# Altium integrated library Diodes$.IntLib: 57 symbols
Pins are listed as number, name and electrical type; pins without a type are passive.

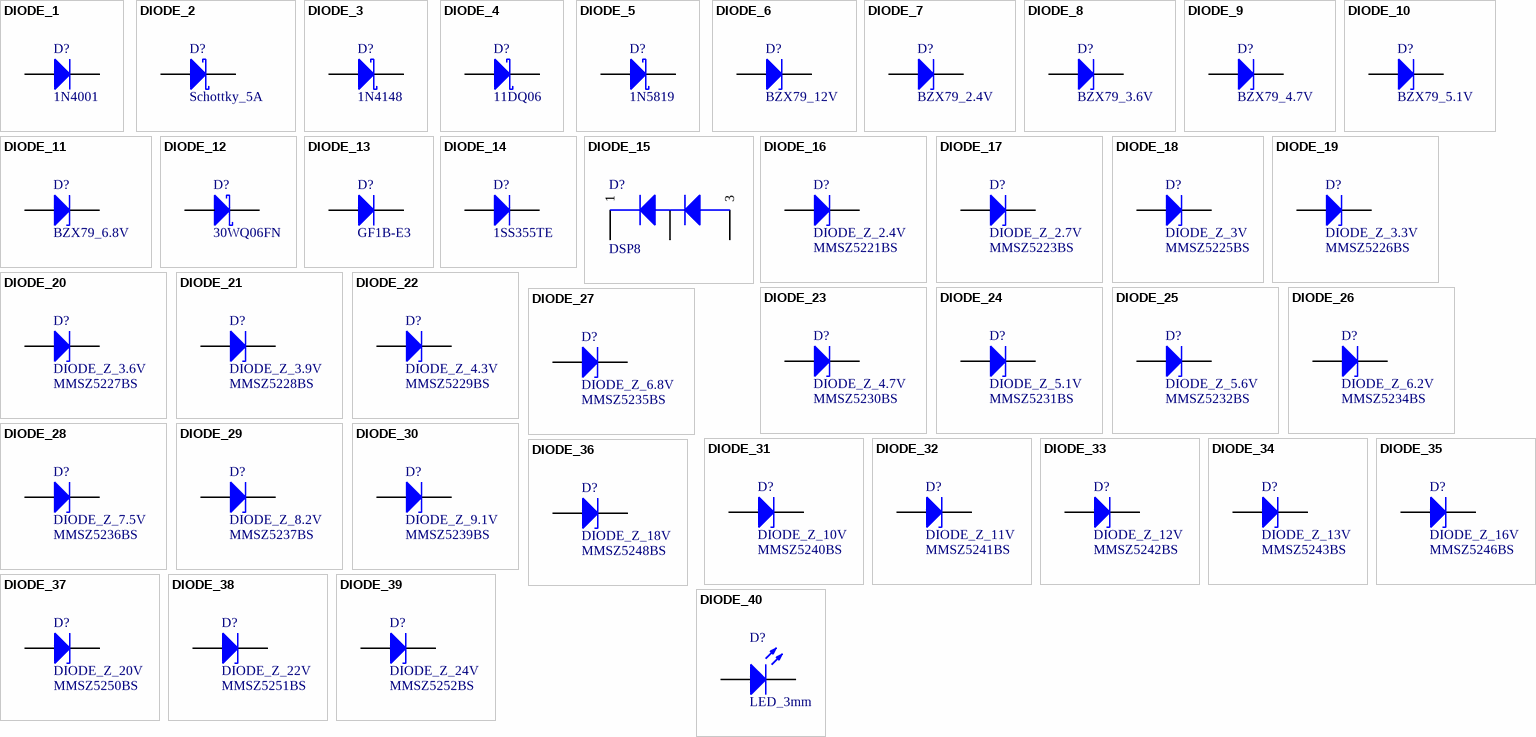
[diagram p0: symbols DIODE_1 to DIODE_40]

## DIODE_1
designator D?, comment 1N4001
Type: Diode; Current / Power: 1 A; RS_number: 628-8931; QR: 1; UID: DIODE_1; Name: 1N4001; Name_Hyperlink: Diode 1N4001-E3; ComponentLink1URL: #NAME?; mounting: THT
footprint DO_41
pins: 1, 2

## DIODE_2
designator D?, comment Schottky_5A
Current / Power: 5 A; RS_number: 700-0928; QR: 1; UID: DIODE_2; Name: Schottky_5A; Type: Schottky; Name_Hyperlink: Diode Schottky Rectifier 5A 60V DO-204AL; ComponentLink1URL: #NAME?; mounting: THT
footprint DO_201
pins: 1 A, 2 K

## DIODE_3
designator D?, comment 1N4148
Type: Schottky; Current / Power: 0.2 A; RS_number: 670-8858; QR: 1; UID: DIODE_3; Name: 1N4148; Name_Hyperlink: Diode Ultra Fast 100V 0.2A 2-Pin DO-35; ComponentLink1URL: #NAME?; mounting: THT
footprint DO_35
pins: 1 A, 2 K

## DIODE_4
designator D?, comment 11DQ06
Type: Schottky; Current / Power: 1.1 A; RS_number: 254-0702; QR: 1; UID: DIODE_4; Name: 11DQ06; Name_Hyperlink: Schottky-Diode 11DQ06; ComponentLink1URL: #NAME?; mounting: THT
footprint DO_41
pins: 1 A, 2 K

## DIODE_5
designator D?, comment 1N5819
Type: Schottky; Current / Power: 1 A; RS_number: 486-4460; QR: 1; UID: DIODE_5; Name: 1N5819; Name_Hyperlink: Schottky-Diode 1N5819; ComponentLink1URL: #NAME?; mounting: THT
footprint DO_41
pins: 1 A, 2 K

## DIODE_6
designator D?, comment BZX79_12V
Type: Zener; Z_Voltage: 12 V; Current / Power: 0.5 W; RS_number: 544-4477; QR: 1; UID: DIODE_6; Name: BZX79_12V; Name_Hyperlink: Zener-Diode BZX79 12 V; ComponentLink1URL: #NAME?; mounting: THT
footprint DO_35
pins: 1, 2

## DIODE_7
designator D?, comment BZX79_2.4V
Type: Zener; Z_Voltage: 2.4 V; Current / Power: 0.5 W; RS_number: 544-3503; QR: 1; UID: DIODE_7; Name: BZX79_2.4V; Name_Hyperlink: Zener-Diode BZX79 2,4 V; ComponentLink1URL: #NAME?; mounting: THT
footprint DO_35
pins: 1, 2

## DIODE_8
designator D?, comment BZX79_3.6V
Type: Zener; Z_Voltage: 3,6 V; Current / Power: 0.5 W; RS_number: 446-8624; QR: 1; UID: DIODE_8; Name: BZX79_3.6V; Name_Hyperlink: Zener-Diode BZX79 3,6 V; ComponentLink1URL: #NAME?; mounting: THT
footprint DO_35
pins: 1, 2

## DIODE_9
designator D?, comment BZX79_4.7V
Type: Zener; Z_Voltage: 4.7 V; Current / Power: 0.5 W; RS_number: 544-3575; QR: 1; UID: DIODE_9; Name: BZX79_4.7V; Name_Hyperlink: Zener-Diode BZX79 4,7 V; ComponentLink1URL: #NAME?; mounting: THT
footprint DO_35
pins: 1, 2

## DIODE_10
designator D?, comment BZX79_5.1V
Type: Zener; Z_Voltage: 5.1 V; Current / Power: 0.5 W; RS_number: 544-3597; QR: 1; UID: DIODE_10; Name: BZX79_5.1V; Name_Hyperlink: Zener-Diode BZX79 5,1 V; ComponentLink1URL: #NAME?; mounting: THT
footprint DO_35
pins: 1, 2

## DIODE_11
designator D?, comment BZX79_6.8V
Type: Zener; Z_Voltage: 6.8 V; Current / Power: 0.5 W; RS_number: 544-3626; QR: 1; UID: DIODE_11; Name: BZX79_6.8V; Name_Hyperlink: Zener-Diode BZX79 6,8 V; ComponentLink1URL: #NAME?; mounting: THT
footprint DO_35
pins: 1, 2

## DIODE_12
designator D?, comment 30WQ06FN
Type: Schottky; Current / Power: 3.5 A; RS_number: 300-357P; QR: 0; UID: DIODE_12; Name: 30WQ06FN; Name_Hyperlink: Diode 30WQ06FN; ComponentLink1URL: #NAME?; mounting: SMD
footprint TO_252
pins: 1, 2, 3

## DIODE_13
designator D?, comment GF1B-E3
Type: Diode; Current / Power: 1 A; RS_number: 629-0423; QR: 0; UID: DIODE_13; Name: GF1B-E3; Name_Hyperlink: GF1B-E3; ComponentLink1URL: #NAME?; mounting: SMD
footprint DO_214
pins: 1, 2

## DIODE_14
designator D?, comment 1SS355TE
Type: Diode; Current / Power: 0.225 A; RS_number: 700-2766; QR: 0; UID: DIODE_14; Name: 1SS355TE; Name_Hyperlink: Gleichrichterdiode 90V 225mA SOD-323; ComponentLink1URL: #NAME?; mounting: SMD
footprint SOD_323
pins: 1, 2

## DIODE_15
designator D?, comment DSP8
Type: Diode; Current / Power: 8 A; RS_number: 761-4044; QR: 0; UID: DIODE_15; Name: DSP8; spice_ref: 0; Name_Hyperlink: Standarddiode 800 V 11 A TO220AB; ComponentLink1URL: #NAME?; mounting: THT
footprint TO_220
pins: 1, 2, 3

## DIODE_16
designator D?, comment DIODE_Z_2.4V
Component_number: MMSZ5221BS; Component_code: Z0; Type: Zener; Z_Voltage: 2.4 V; Current / Power: 0.2 W; QR: 0; UID: DIODE_16; Name: DIODE_Z_2.4V; ComponentLink1URL: #NAME?; mounting: SMD
footprint SOD_323
pins: 1, 2

## DIODE_17
designator D?, comment DIODE_Z_2.7V
Component_number: MMSZ5223BS; Component_code: Z1; Type: Zener; Z_Voltage: 2.7 V; Current / Power: 0.2 W; QR: 0; UID: DIODE_17; Name: DIODE_Z_2.7V; ComponentLink1URL: #NAME?; mounting: SMD
footprint SOD_323
pins: 1, 2

## DIODE_18
designator D?, comment DIODE_Z_3V
Component_number: MMSZ5225BS; Component_code: Z2; Type: Zener; Z_Voltage: 3 V; Current / Power: 0.2 W; QR: 0; UID: DIODE_18; Name: DIODE_Z_3V; ComponentLink1URL: #NAME?; mounting: SMD
footprint SOD_323
pins: 1, 2

## DIODE_19
designator D?, comment DIODE_Z_3.3V
Component_number: MMSZ5226BS; Component_code: Z3; Type: Zener; Z_Voltage: 3.3 V; Current / Power: 0.2 W; QR: 0; UID: DIODE_19; Name: DIODE_Z_3.3V; ComponentLink1URL: #NAME?; mounting: SMD
footprint SOD_323
pins: 1, 2

## DIODE_20
designator D?, comment DIODE_Z_3.6V
Component_number: MMSZ5227BS; Component_code: Z4; Type: Zener; Z_Voltage: 3.6 V; Current / Power: 0.2 W; QR: 0; UID: DIODE_20; Name: DIODE_Z_3.6V; ComponentLink1URL: #NAME?; mounting: SMD
footprint SOD_323
pins: 1, 2

## DIODE_21
designator D?, comment DIODE_Z_3.9V
Component_number: MMSZ5228BS; Component_code: Z5; Type: Zener; Z_Voltage: 3.9 V; Current / Power: 0.2 W; QR: 0; UID: DIODE_21; Name: DIODE_Z_3.9V; ComponentLink1URL: #NAME?; mounting: SMD
footprint SOD_323
pins: 1, 2

## DIODE_22
designator D?, comment DIODE_Z_4.3V
Component_number: MMSZ5229BS; Component_code: Z6; Type: Zener; Z_Voltage: 4.3 V; Current / Power: 0.2 W; QR: 0; UID: DIODE_22; Name: DIODE_Z_4.3V; ComponentLink1URL: #NAME?; mounting: SMD
footprint SOD_323
pins: 1, 2

## DIODE_23
designator D?, comment DIODE_Z_4.7V
Component_number: MMSZ5230BS; Component_code: Z7; Type: Zener; Z_Voltage: 4.7 V; Current / Power: 0.2 W; QR: 0; UID: DIODE_23; Name: DIODE_Z_4.7V; ComponentLink1URL: #NAME?; mounting: SMD
footprint SOD_323
pins: 1, 2

## DIODE_24
designator D?, comment DIODE_Z_5.1V
Component_number: MMSZ5231BS; Component_code: E1; Type: Zener; Z_Voltage: 5.1 V; Current / Power: 0.2 W; QR: 0; UID: DIODE_24; Name: DIODE_Z_5.1V; ComponentLink1URL: #NAME?; mounting: SMD
footprint SOD_323
pins: 1, 2

## DIODE_25
designator D?, comment DIODE_Z_5.6V
Component_number: MMSZ5232BS; Component_code: E2; Type: Zener; Z_Voltage: 5.6 V; Current / Power: 0.2 W; QR: 0; UID: DIODE_25; Name: DIODE_Z_5.6V; ComponentLink1URL: #NAME?; mounting: SMD
footprint SOD_323
pins: 1, 2

## DIODE_26
designator D?, comment DIODE_Z_6.2V
Component_number: MMSZ5234BS; Component_code: E4; Type: Zener; Z_Voltage: 6.2 V; Current / Power: 0.2 W; QR: 0; UID: DIODE_26; Name: DIODE_Z_6.2V; ComponentLink1URL: #NAME?; mounting: SMD
footprint SOD_323
pins: 1, 2

## DIODE_27
designator D?, comment DIODE_Z_6.8V
Component_number: MMSZ5235BS; Component_code: ZB; Type: Zener; Z_Voltage: 6.8 V; Current / Power: 0.2 W; QR: 0; UID: DIODE_27; Name: DIODE_Z_6.8V; ComponentLink1URL: #NAME?; mounting: SMD
footprint SOD_323
pins: 1, 2

## DIODE_28
designator D?, comment DIODE_Z_7.5V
Component_number: MMSZ5236BS; Component_code: F1; Type: Zener; Z_Voltage: 7.5 V; Current / Power: 0.2 W; QR: 0; UID: DIODE_28; Name: DIODE_Z_7.5V; ComponentLink1URL: #NAME?; mounting: SMD
footprint SOD_323
pins: 1, 2

## DIODE_29
designator D?, comment DIODE_Z_8.2V
Component_number: MMSZ5237BS; Component_code: F2; Type: Zener; Z_Voltage: 8.2 V; Current / Power: 0.2 W; QR: 0; UID: DIODE_29; Name: DIODE_Z_8.2V; ComponentLink1URL: #NAME?; mounting: SMD
footprint SOD_323
pins: 1, 2

## DIODE_30
designator D?, comment DIODE_Z_9.1V
Component_number: MMSZ5239BS; Component_code: ZE; Type: Zener; Z_Voltage: 9.1 V; Current / Power: 0.2 W; QR: 0; UID: DIODE_30; Name: DIODE_Z_9.1V; ComponentLink1URL: #NAME?; mounting: SMD
footprint SOD_323
pins: 1, 2

## DIODE_31
designator D?, comment DIODE_Z_10V
Component_number: MMSZ5240BS; Component_code: F5; Type: Zener; Z_Voltage: 10 V; Current / Power: 0.2 W; QR: 0; UID: DIODE_31; Name: DIODE_Z_10V; ComponentLink1URL: #NAME?; mounting: SMD
footprint SOD_323
pins: 1, 2

## DIODE_32
designator D?, comment DIODE_Z_11V
Component_number: MMSZ5241BS; Component_code: H1; Type: Zener; Z_Voltage: 11 V; Current / Power: 0.2 W; QR: 0; UID: DIODE_32; Name: DIODE_Z_11V; ComponentLink1URL: #NAME?; mounting: SMD
footprint SOD_323
pins: 1, 2

## DIODE_33
designator D?, comment DIODE_Z_12V
Component_number: MMSZ5242BS; Component_code: H2; Type: Zener; Z_Voltage: 12 V; Current / Power: 0.2 W; QR: 0; UID: DIODE_33; Name: DIODE_Z_12V; ComponentLink1URL: #NAME?; mounting: SMD
footprint SOD_323
pins: 1, 2

## DIODE_34
designator D?, comment DIODE_Z_13V
Component_number: MMSZ5243BS; Component_code: ZJ; Type: Zener; Z_Voltage: 13 V; Current / Power: 0.2 W; QR: 0; UID: DIODE_34; Name: DIODE_Z_13V; ComponentLink1URL: #NAME?; mounting: SMD
footprint SOD_323
pins: 1, 2

## DIODE_35
designator D?, comment DIODE_Z_16V
Component_number: MMSZ5246BS; Component_code: J1; Type: Zener; Z_Voltage: 16 V; Current / Power: 0.2 W; QR: 0; UID: DIODE_35; Name: DIODE_Z_16V; ComponentLink1URL: #NAME?; mounting: SMD
footprint SOD_323
pins: 1, 2

## DIODE_36
designator D?, comment DIODE_Z_18V
Component_number: MMSZ5248BS; Component_code: J3; Type: Zener; Z_Voltage: 18 V; Current / Power: 0.2 W; QR: 0; UID: DIODE_36; Name: DIODE_Z_18V; ComponentLink1URL: #NAME?; mounting: SMD
footprint SOD_323
pins: 1, 2

## DIODE_37
designator D?, comment DIODE_Z_20V
Component_number: MMSZ5250BS; Component_code: J5; Type: Zener; Z_Voltage: 20 V; Current / Power: 0.2 W; QR: 0; UID: DIODE_37; Name: DIODE_Z_20V; ComponentLink1URL: #NAME?; mounting: SMD
footprint SOD_323
pins: 1, 2

## DIODE_38
designator D?, comment DIODE_Z_22V
Component_number: MMSZ5251BS; Component_code: PZ; Type: Zener; Z_Voltage: 22 V; Current / Power: 0.2 W; QR: 0; UID: DIODE_38; Name: DIODE_Z_22V; ComponentLink1URL: #NAME?; mounting: SMD
footprint SOD_323
pins: 1, 2

## DIODE_39
designator D?, comment DIODE_Z_24V
Component_number: MMSZ5252BS; Component_code: ZR; Type: Zener; Z_Voltage: 24 V; Current / Power: 0.2 W; QR: 0; UID: DIODE_39; Name: DIODE_Z_24V; ComponentLink1URL: #NAME?; mounting: SMD
footprint SOD_323
pins: 1, 2

## DIODE_40
designator D?, comment LED_3mm
Type: LED; QR: 0; UID: DIODE_40; Name: LED_3mm; ComponentLink1URL: #NAME?; mounting: THT
footprint LED_3MM
pins: 1, 2

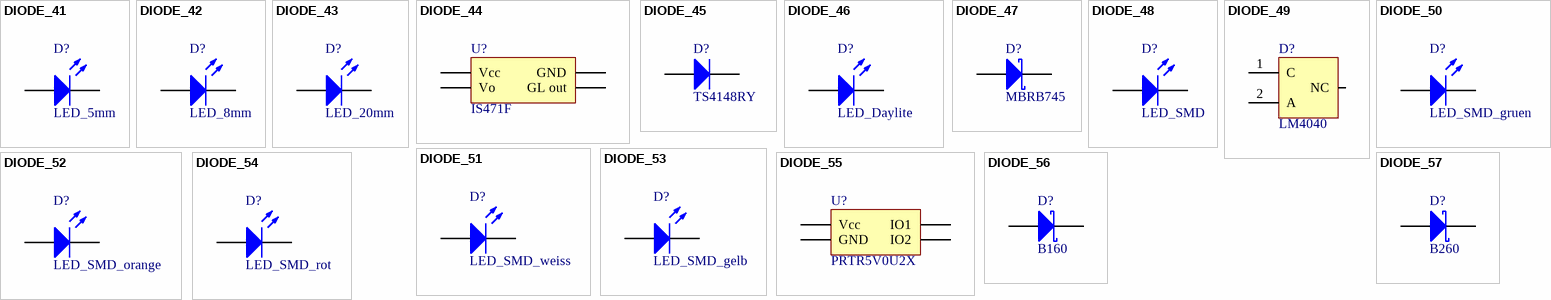
[diagram p1: symbols DIODE_41 to DIODE_57]

## DIODE_41
designator D?, comment LED_5mm
Type: LED; QR: 0; UID: DIODE_41; Name: LED_5mm; ComponentLink1URL: #NAME?; mounting: THT
footprint LED_5MM
pins: 1, 2

## DIODE_42
designator D?, comment LED_8mm
Type: LED; QR: 0; UID: DIODE_42; Name: LED_8mm; ComponentLink1URL: #NAME?; mounting: THT
footprint LED_8MM
pins: 1, 2

## DIODE_43
designator D?, comment LED_20mm
Type: LED; QR: 0; UID: DIODE_43; Name: LED_20mm; ComponentLink1URL: #NAME?; mounting: THT
footprint LED_20MM
pins: 1, 2

## DIODE_44
designator U?, comment IS471F
QR: 0; UID: DIODE_44; Name: IS471F; Type: IR Rec; ComponentLink1URL: #NAME?; mounting: THT
footprint IR_ISF471F
pins: 1 Vcc, 2 Vo, 3 GND, 4 GL out

## DIODE_45
designator D?, comment TS4148RY
Current / Power: 0.15 A; QR: 0; UID: DIODE_45; Name: TS4148RY; ComponentLink1URL: #NAME?; mounting: SMD
footprint _0805_diode
pins: 1, 2

## DIODE_46
designator D?, comment LED_Daylite
Type: LED; RS_number: N8955; QR: 0; UID: DIODE_46; Name: LED_Daylite; Name_Hyperlink: LED-Modul DAYLITE 8W warmweiߠ; ComponentLink1URL: #NAME?; mounting: SMD
footprint LED_DAYLITE
pins: 1, 2

## DIODE_47
designator D?, comment MBRB745
Type: Schottky; Current / Power: 7.5 A; QR: 0; UID: DIODE_47; Name: MBRB745; ComponentLink1URL: #NAME?; mounting: SMD
footprint TO_252
pins: 2 A, 3 K

## DIODE_48
designator D?, comment LED_SMD
Type: LED; QR: 0; UID: DIODE_48; Name: LED_SMD; ComponentLink1URL: #NAME?; mounting: SMD
footprint LED_SMD
pins: 1, 2

## DIODE_49
designator D?, comment LM4040
Type: Voltagereference; RS_number: 545-7675; QR: 0; UID: DIODE_49; Name: LM4040; Name_Hyperlink: https://at.rs-online.com/web/p/referenzspannungs-ics/5457675/?searchTerm=LM4040D20IDBZT&relevancy-data=636F3D3226696E3D4931384E4B6E6F776E41734D504E266C753D6465266D6D3D6D61746368616C6C7061727469616C26706D3D5E5B5C772D5C2E2F252C5D2B2426706F3D313326736E3D5926; ComponentLink1URL: #NAME?; mounting: SMD
footprint SOT_23
pins: 1 C, 2 A, 3 NC

## DIODE_50
designator D?, comment LED_SMD_gruen
Colour: gruen; RS_number: 664-8181; QR: 0; UID: DIODE_50; Name: LED_SMD_gruen; Name_Hyperlink: SMD_LED Hyper Mini TOPLED grün; ComponentLink1URL: #NAME?; mounting: SMD
footprint LED_SMD
pins: 1, 2

## DIODE_51
designator D?, comment LED_SMD_weiss
Colour: weiss; RS_number: 664-8302; QR: 0; UID: DIODE_51; Name: LED_SMD_weiss; Name_Hyperlink: SMD_LED Hyper Mini TOPLED weiß; ComponentLink1URL: #NAME?; mounting: SMD
footprint LED_SMD
pins: 1, 2

## DIODE_52
designator D?, comment LED_SMD_orange
Colour: orange; RS_number: 665-6113; QR: 0; UID: DIODE_52; Name: LED_SMD_orange; Name_Hyperlink: SMD_LED Mini TOPLED orange; ComponentLink1URL: #NAME?; mounting: SMD
footprint LED_SMD
pins: 1, 2

## DIODE_53
designator D?, comment LED_SMD_gelb
Colour: gelb; RS_number: 654-5846; QR: 0; UID: DIODE_53; Name: LED_SMD_gelb; Name_Hyperlink: SMD_LED SMD Mini-TOPLED gelb; ComponentLink1URL: #NAME?; mounting: SMD
footprint LED_SMD
pins: 1, 2

## DIODE_54
designator D?, comment LED_SMD_rot
Colour: rot; RS_number: 688-9531; QR: 0; UID: DIODE_54; Name: LED_SMD_rot; Name_Hyperlink: SMD_MiniTOPLED schwarz superrot; ComponentLink1URL: #NAME?; mounting: SMD
footprint LED_SMD
pins: 1, 2

## DIODE_55
designator U?, comment PRTR5V0U2X
3d_ref: 0; RS_number: 725-8720; UID: DIODE_55; Name: PRTR5V0U2X; spice_ref: SMD; Name_Hyperlink: https://at.rs-online.com/web/p/suppressordioden-tvs/7258720/?searchTerm=725-8720&relevancy-data=636F3D3126696E3D4931384E525353746F636B4E756D6265724D504E266C753D656E266D6D3D6D61746368616C6C26706D3D5E5C647B337D5B5C732D2F255C2E2C5D5C647B332C347D2426706F3D313; ComponentLink1URL: #NAME?; QR: 0; mounting: SMD
footprint SOT_143
pins: 1 GND, 2 IO1, 3 IO2, 4 Vcc

## DIODE_56
designator D?, comment B160
Type: Schottky; Current / Power: 1A; RS_number: 738-4765; QR: 0; UID: DIODE_56; Name: B160; Name_Hyperlink: http://at.rs-online.com/web/p/gleichrichter-und-schottky-dioden/7384765/?searchTerm=7384765&relevancy-data=636F3D3126696E3D4931384E525353746F636B4E756D6265724D504E266C753D656E266D6D3D6D61746368616C6C26706D3D5E5C647B367D247C5E5C647B377D247C5E5C647B31307D24; ComponentLink1URL: #NAME?; mounting: SMD
footprint SMA
pins: 1 A, 2 K

## DIODE_57
designator D?, comment B260
Type: Schottky; Current / Power: 2A; RS_number: 738-4771; QR: 0; UID: DIODE_57; Name: B260; Name_Hyperlink: http://at.rs-online.com/web/p/gleichrichter-und-schottky-dioden/7384771/; ComponentLink1URL: #NAME?; mounting: SMD
footprint SMB
pins: 1 A, 2 K